# Altium footprint library SMD-SOTxx.PcbLib: 10 footprints
Each footprint in its own frame and in the unit in brackets; x right, y up, seen from the top. Pads: shape width x height; smd on the part's side, far side on the other; paste and mask are expansions set on the pad; w line width, h text height; cw(c..) or ccw(c..) is an arc to the next point about the centre after c.
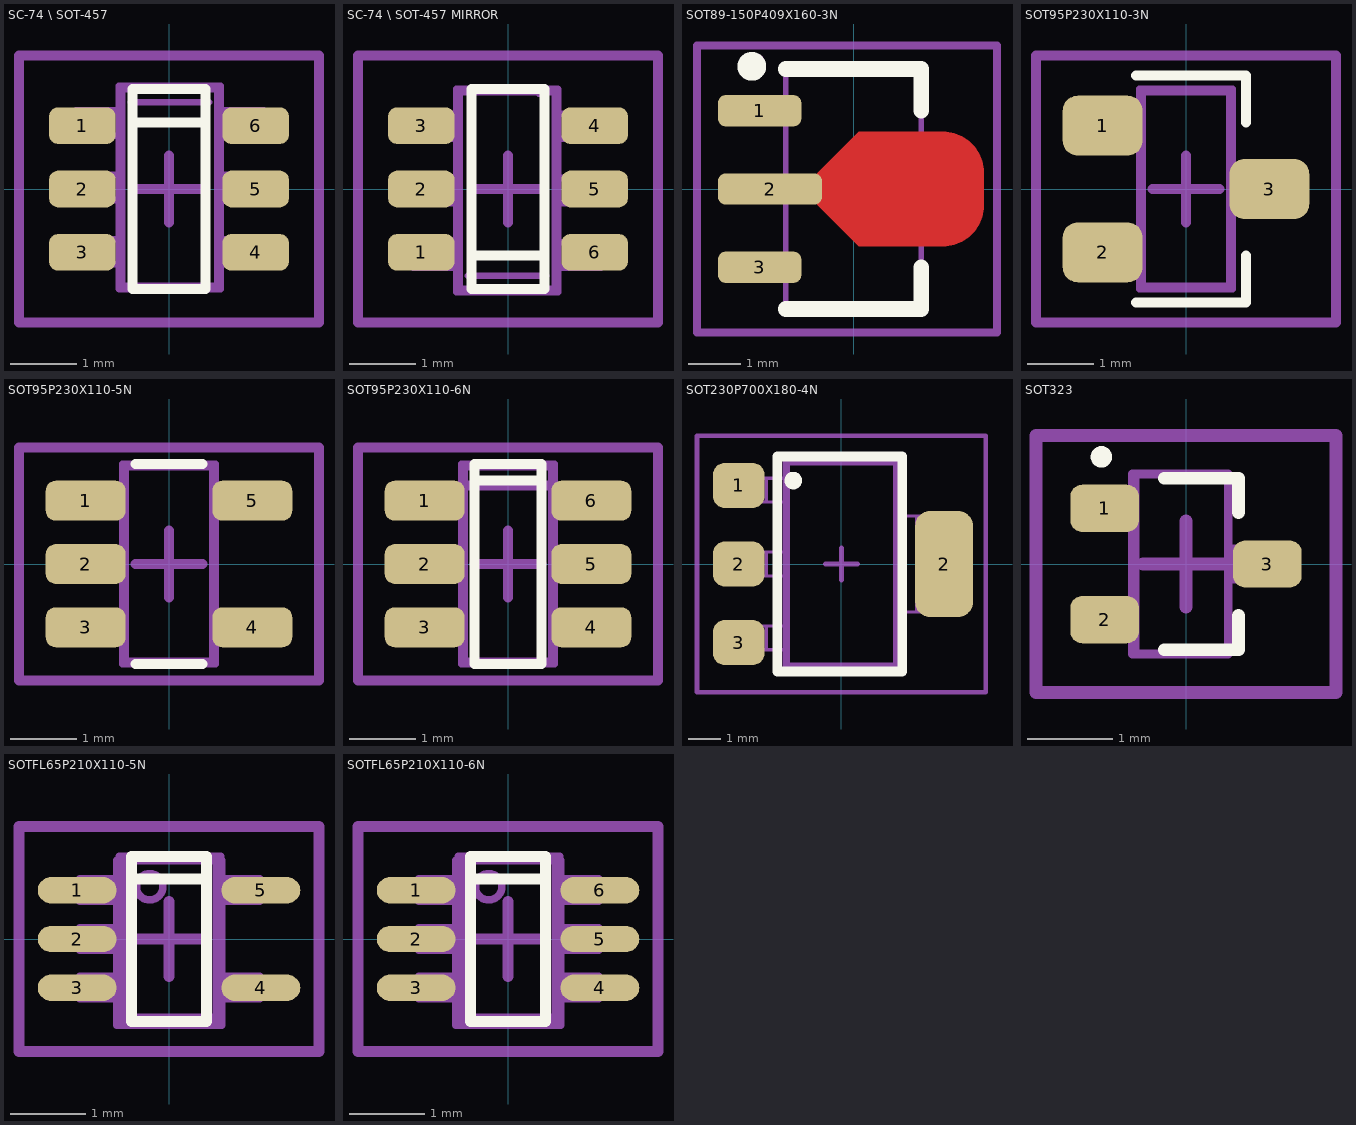
[diagram p0: the footprints below, top view; thin cyan lines are the x and y axes]

## SC-74 \ SOT-457 [mm] "SOP, 6-Leads, Body 3,18x1,80mm, Pitch 0,95mm, IPC Medium Density"
height 2.65
pads (6):
  rrect50% 1x0.55 smd: 1(-1.3,0.95) 2(-1.3,0) 3(-1.3,-0.95) 4(1.3,-0.95) 5(1.3,0) 6(1.3,0.95)
Top Overlay:
  lines w0.15: -0.55,1 0.55,1 ; -0.55,-1.5 -0.55,1.5 0.55,1.5 0.55,-1.5 -0.55,-1.5
Top Assembly (Mech13):
  lines w0.1: -0.75,-1.129 -0.877,-1.129 ; -0.75,-0.753 -0.877,-0.753 ; -0.75,-0.164 -0.877,-0.164 ; -0.75,0.212 -0.877,0.212 ; -0.75,0.801 -0.877,0.801 ; -0.75,1.177 -0.877,1.177 ; -0.572,1.3 0.603,1.3 ; 0.774,-1.129 0.911,-1.129 ; 0.774,-0.753 0.911,-0.753 ; 0.774,-0.164 0.911,-0.164 ; 0.774,0.212 0.911,0.212 ; 0.774,0.801 0.911,0.801 ; 0.774,1.177 0.911,1.177 ; -1.079,-1.129 -1.079,-0.753 ; -1.079,-1.129 -1.395,-1.129 -1.395,-0.753 -1.079,-0.753 ; -1.079,-1.129 -1.07,-1.129 ; -1.079,-0.753 -1.07,-0.753 ; -1.079,-0.164 -1.079,0.212 ; -1.079,-0.164 -1.395,-0.164 -1.395,0.212 -1.079,0.212 ; -1.079,-0.164 -1.07,-0.164 ; -1.079,0.212 -1.07,0.212 ; -1.079,0.801 -1.079,1.177 ; -1.079,0.801 -1.395,0.801 -1.395,1.177 -1.079,1.177 ; -1.079,0.801 -1.07,0.801 ; -1.079,1.177 -1.07,1.177 ; -1.07,-1.129 -0.877,-1.129 ; -1.07,-1.129 -1.07,-0.753 ; -1.07,-0.753 -0.877,-0.753 ; -1.07,-0.164 -0.877,-0.164 ; -1.07,-0.164 -1.07,0.212 ; -1.07,0.212 -0.877,0.212 ; -1.07,0.801 -0.877,0.801 ; -1.07,0.801 -1.07,1.177 ; -1.07,1.177 -0.877,1.177 ; -0.877,-1.129 -0.877,-0.753 ; -0.877,-0.164 -0.877,0.212 ; -0.877,0.801 -0.877,1.177 ; -0.75,-1.5 -0.75,1.548 ; -0.75,-1.5 -0.699,-1.449 ; -0.75,-1.5 0.774,-1.5 ; -0.75,1.548 0.774,1.548 ; -0.75,1.548 -0.699,1.497 ; -0.699,-1.449 -0.699,1.497 ; -0.699,-1.449 0.723,-1.449 ; -0.699,1.497 0.723,1.497 ; 0.723,-1.449 0.774,-1.5 ; 0.723,-1.449 0.723,1.497 ; 0.723,1.497 0.774,1.548 ; 0.774,-1.5 0.774,1.548 ; 0.911,-1.129 0.911,-0.753 ; 0.911,-1.129 1.101,-1.129 ; 0.911,-0.753 1.101,-0.753 ; 0.911,-0.164 0.911,0.212 ; 0.911,-0.164 1.101,-0.164 ; 0.911,0.212 1.101,0.212 ; 0.911,0.801 0.911,1.177 ; 0.911,0.801 1.101,0.801 ; 0.911,1.177 1.101,1.177 ; 1.101,-1.129 1.105,-1.129 ; 1.101,-1.129 1.101,-0.753 ; 1.101,-0.753 1.105,-0.753 ; 1.101,-0.164 1.105,-0.164 ; 1.101,-0.164 1.101,0.212 ; 1.101,0.212 1.105,0.212 ; 1.101,0.801 1.105,0.801 ; 1.101,0.801 1.101,1.177 ; 1.101,1.177 1.105,1.177 ; 1.105,-1.129 1.105,-0.753 ; 1.105,-1.129 1.42,-1.129 1.42,-0.753 1.105,-0.753 ; 1.105,-0.164 1.105,0.212 ; 1.105,-0.164 1.42,-0.164 1.42,0.212 1.105,0.212 ; 1.105,0.801 1.105,1.177 ; 1.105,0.801 1.42,0.801 1.42,1.177 1.105,1.177
Top Component Outline:
  lines w0.15: -0.5,0 0.5,0 ; 0,-0.5 0,0.5 ; -2.25,-2 -2.25,2 2.25,2 2.25,-2 -2.25,-2
3D body "User Library-SOT457.STEP": height 1, standoff 0, extent -1.4,-1.5 1.4,1.5

## SC-74 \ SOT-457 MIRROR [mm] "SOP, 6-Leads, Body 3,18x1,80mm, Pitch 0,95mm, IPC Medium Density"
height 2.65
pads (6):
  rrect50% 1x0.55 smd: 1(-1.3,-0.95) 2(-1.3,0) 3(-1.3,0.95) 4(1.3,0.95) 5(1.3,0) 6(1.3,-0.95)
Top Overlay:
  lines w0.15: -0.55,-1 0.55,-1 ; -0.55,-1.5 -0.55,1.5 0.55,1.5 0.55,-1.5 -0.55,-1.5
Top Assembly (Mech13):
  lines w0.1: -0.774,-1.177 -0.911,-1.177 ; -0.774,-0.801 -0.911,-0.801 ; -0.774,-0.212 -0.911,-0.212 ; -0.774,0.164 -0.911,0.164 ; -0.774,0.753 -0.911,0.753 ; -0.774,1.129 -0.911,1.129 ; -0.603,-1.3 0.572,-1.3 ; 0.46,1.429 0.46,1.497 ; 0.75,-1.177 0.877,-1.177 ; 0.75,-0.801 0.877,-0.801 ; 0.75,-0.212 0.877,-0.212 ; 0.75,0.164 0.877,0.164 ; 0.75,0.753 0.877,0.753 ; 0.75,1.129 0.877,1.129 ; -1.105,-1.177 -1.101,-1.177 ; -1.105,-1.177 -1.42,-1.177 -1.42,-0.801 -1.105,-0.801 ; -1.105,-1.177 -1.105,-0.801 ; -1.105,-0.801 -1.101,-0.801 ; -1.105,-0.212 -1.101,-0.212 ; -1.105,-0.212 -1.42,-0.212 -1.42,0.164 -1.105,0.164 ; -1.105,-0.212 -1.105,0.164 ; -1.105,0.164 -1.101,0.164 ; -1.105,0.753 -1.101,0.753 ; -1.105,0.753 -1.42,0.753 -1.42,1.129 -1.105,1.129 ; -1.105,0.753 -1.105,1.129 ; -1.105,1.129 -1.101,1.129 ; -1.101,-1.177 -1.101,-0.801 ; -1.101,-1.177 -0.911,-1.177 ; -1.101,-0.801 -0.911,-0.801 ; -1.101,-0.212 -1.101,0.164 ; -1.101,-0.212 -0.911,-0.212 ; -1.101,0.164 -0.911,0.164 ; -1.101,0.753 -1.101,1.129 ; -1.101,0.753 -0.911,0.753 ; -1.101,1.129 -0.911,1.129 ; -0.911,-1.177 -0.911,-0.801 ; -0.911,-0.212 -0.911,0.164 ; -0.911,0.753 -0.911,1.129 ; -0.774,-1.548 -0.723,-1.497 ; -0.774,-1.548 -0.774,1.5 ; -0.774,-1.548 0.75,-1.548 ; -0.774,1.5 -0.723,1.449 ; -0.774,1.5 0.75,1.5 ; -0.723,-1.497 0.699,-1.497 ; -0.723,-1.497 -0.723,1.449 ; -0.723,1.449 0.699,1.449 ; 0.699,-1.497 0.699,1.449 ; 0.699,-1.497 0.75,-1.548 ; 0.699,1.449 0.75,1.5 ; 0.75,-1.548 0.75,1.5 ; 0.877,-1.177 1.07,-1.177 ; 0.877,-1.177 0.877,-0.801 ; 0.877,-0.801 1.07,-0.801 ; 0.877,-0.212 1.07,-0.212 ; 0.877,-0.212 0.877,0.164 ; 0.877,0.164 1.07,0.164 ; 0.877,0.753 1.07,0.753 ; 0.877,0.753 0.877,1.129 ; 0.877,1.129 1.07,1.129 ; 1.07,-1.177 1.07,-0.801 ; 1.07,-1.177 1.079,-1.177 ; 1.07,-0.801 1.079,-0.801 ; 1.07,-0.212 1.07,0.164 ; 1.07,-0.212 1.079,-0.212 ; 1.07,0.164 1.079,0.164 ; 1.07,0.753 1.07,1.129 ; 1.07,0.753 1.079,0.753 ; 1.07,1.129 1.079,1.129 ; 1.079,-1.177 1.395,-1.177 1.395,-0.801 1.079,-0.801 ; 1.079,-1.177 1.079,-0.801 ; 1.079,-0.212 1.395,-0.212 1.395,0.164 1.079,0.164 ; 1.079,-0.212 1.079,0.164 ; 1.079,0.753 1.395,0.753 1.395,1.129 1.079,1.129 ; 1.079,0.753 1.079,1.129
Top Component Outline:
  lines w0.15: -0.5,0 0.5,0 ; 0,-0.5 0,0.5 ; -2.25,-2 -2.25,2 2.25,2 2.25,-2 -2.25,-2
3D body "User Library-SOT457.STEP": height 1, standoff 0, extent -1.4,-1.5 1.4,1.5

## SOT89-150P409X160-3N [mm] "SOT89, 3-Leads, Body 4,50x2,50mm, Pitch 1,50mm, Lead Span 4,1mm, IPC Medium Density"
height 1.6
pads (3):
  rrect50% 1.6x0.6 smd: 1(-1.8,1.5) 3(-1.8,-1.5)
  rrect50% 2x0.6 smd: 2(-1.6,0)
Top Layer:
  region: -0.7,0.3 0.1,1.1 1.7,1.1 1.779,1.1 1.933,1.069 2.079,1.009 2.21,0.921 2.321,0.81 2.409,0.679 2.469,0.533 2.5,0.379 2.5,0.3 2.5,-0.3 2.5,-0.379 2.469,-0.533 2.409,-0.679 2.321,-0.81 2.21,-0.921 2.079,-1.009 1.933,-1.069 1.779,-1.1 1.7,-1.1 0.1,-1.1 -0.7,-0.3
Top Overlay:
  circle w0.3: c-1.95,2.35 r0.125
  lines w0.3: -1.3,-2.3 1.3,-2.3 1.3,-1.5 ; -1.3,2.3 1.3,2.3 1.3,1.5
Top Assembly (Mech13):
  circle w0.1: c-1.9,2.4 r0.158
  region: 1.3,0.6 1.6,0.6 2,0.2 2,-0.2 1.6,-0.6 1.3,-0.6
  region: -1.328,1.397 -1.328,1.722 -2.228,1.722 -2.228,1.397
  region: -1.328,-0.127 -1.328,0.198 -2.228,0.198 -2.228,-0.127
  region: -1.328,-1.651 -1.328,-1.326 -2.228,-1.326 -2.228,-1.651
  lines w0.1: -1.3,-2.3 1.3,-2.3 1.3,2.3 -1.3,2.3 -1.3,-2.3
  lines w0.254: 1.4,-0.6 1.6,-0.6 2,-0.2 2,0.2 1.6,0.6 1.4,0.6
Top Component Outline:
  lines w0.15: -0.5,0 0.5,0 ; 0,-0.5 0,0.5 ; -3,-2.75 2.75,-2.75 2.75,2.75 -3,2.75 -3,-2.75
3D body "SOT89.STEP": height 1.5, standoff 0, extent -2.149,-2.239 1.946,2.261

## SOT95P230X110-3N [mm] "SOT23, 3-Leads, Body 2,90x2,30mm, Pitch 0,95mm, IPC Medium Density"
height 1.1
pads (3):
  rrect50% 1.2x0.9 smd: 1(-1.25,0.95) 2(-1.25,-0.95) 3(1.25,0)
Top Overlay:
  lines w0.15: -0.75,-1.7 0.9,-1.7 0.9,-1 ; -0.75,1.7 0.9,1.7 0.9,1
Top Assembly (Mech13):
  lines w0.1: -1.25,-1.175 -1.027,-1.175 ; -1.25,-1.175 -1.25,-0.725 ; -1.25,-1.175 -1.25,-0.725 ; -1.25,-1.175 -0.7,-1.175 ; -1.25,-0.725 -1.027,-0.725 ; -1.25,-0.725 -0.7,-0.725 ; -1.25,0.725 -1.027,0.725 ; -1.25,0.725 -1.25,1.175 ; -1.25,0.725 -0.7,0.725 ; -1.25,0.725 -1.25,1.175 ; -1.25,1.175 -1.027,1.175 ; -1.25,1.175 -0.7,1.175 ; -1.027,-1.175 -1.027,-0.725 ; -1.027,-1.175 -0.977,-1.175 ; -1.027,-0.725 -0.977,-0.725 ; -1.027,0.725 -1.027,1.175 ; -1.027,0.725 -0.977,0.725 ; -1.027,1.175 -0.977,1.175 ; -0.977,-1.175 -0.977,-0.725 ; -0.977,-1.175 -0.955,-1.175 ; -0.977,-0.725 -0.955,-0.725 ; -0.977,0.725 -0.977,1.175 ; -0.977,0.725 -0.955,0.725 ; -0.977,1.175 -0.955,1.175 ; -0.955,-1.175 -0.955,-0.725 ; -0.955,-1.175 -0.757,-1.175 ; -0.955,-0.725 -0.757,-0.725 ; -0.955,0.725 -0.955,1.175 ; -0.955,0.725 -0.757,0.725 ; -0.955,1.175 -0.757,1.175 ; -0.757,-1.175 -0.757,-0.725 ; -0.757,-1.175 -0.7,-1.175 ; -0.757,-0.725 -0.7,-0.725 ; -0.757,0.725 -0.757,1.175 ; -0.757,0.725 -0.7,0.725 ; -0.757,1.175 -0.7,1.175 ; -0.7,-1.5 -0.7,-1.175 ; -0.7,-1.5 0.7,-1.5 ; -0.7,-1.5 -0.652,-1.452 ; -0.7,-1.5 0.7,-1.5 ; -0.7,-1.5 -0.7,-1.175 ; -0.7,-1.175 -0.7,-0.725 ; -0.7,-0.725 -0.7,0.725 ; -0.7,-0.725 -0.7,0.725 ; -0.7,0.725 -0.7,1.175 ; -0.7,1.175 -0.7,1.5 ; -0.7,1.175 -0.7,1.5 ; -0.7,1.5 0.7,1.5 ; -0.7,1.5 -0.652,1.452 ; -0.7,1.5 0.7,1.5 ; -0.652,-1.452 -0.652,1.452 ; -0.652,-1.452 0.652,-1.452 ; -0.652,1.452 0.652,1.452 ; 0.652,-1.452 0.652,1.452 ; 0.652,-1.452 0.7,-1.5 ; 0.652,1.452 0.7,1.5 ; 0.7,-1.5 0.7,-0.225 ; 0.7,-1.5 0.7,-0.225 ; 0.7,-0.225 0.757,-0.225 ; 0.7,-0.225 0.7,0.225 ; 0.7,-0.225 1.25,-0.225 ; 0.7,0.225 0.757,0.225 ; 0.7,0.225 0.7,1.5 ; 0.7,0.225 0.7,1.5 ; 0.7,0.225 1.25,0.225 ; 0.757,-0.225 0.757,0.225 ; 0.757,-0.225 0.955,-0.225 ; 0.757,0.225 0.955,0.225 ; 0.955,-0.225 0.955,0.225 ; 0.955,-0.225 0.977,-0.225 ; 0.955,0.225 0.977,0.225 ; 0.977,-0.225 0.977,0.225 ; 0.977,-0.225 1.027,-0.225 ; 0.977,0.225 1.027,0.225 ; 1.027,-0.225 1.027,0.225 ; 1.027,-0.225 1.25,-0.225 ; 1.027,0.225 1.25,0.225 ; 1.25,-0.225 1.25,0.225 ; 1.25,-0.225 1.25,0.225
Top Component Outline:
  lines w0.15: -0.5,0 0.5,0 ; 0,-0.5 0,0.5 ; -2.25,-2 -2.25,2 2.25,2 2.25,-2 -2.25,-2
3D body "SOT-23 3.STEP": height 1, standoff -0.02, extent -1.269,-1.46 1.207,1.46

## SOT95P230X110-5N [mm] "SOT23, 5-Leads, Body 2,90x2,30mm, Pitch 0,95mm, IPC Medium Density"
height 1.1
pads (5):
  rrect50% 1.2x0.6 smd: 1(-1.25,0.95) 2(-1.25,0) 3(-1.25,-0.95) 4(1.25,-0.95) 5(1.25,0.95)
Top Overlay:
  lines w0.15: -0.5,-1.5 0.5,-1.5 ; -0.5,1.5 0.5,1.5
Top Assembly (Mech13):
  lines w0.1: -1.25,-1.175 -0.7,-1.175 ; -1.25,-1.175 -1.25,-0.725 ; -1.25,-1.175 -1.25,-0.725 ; -1.25,-1.175 -1.027,-1.175 ; -1.25,-0.725 -0.7,-0.725 ; -1.25,-0.725 -1.027,-0.725 ; -1.25,-0.225 -1.25,0.225 ; -1.25,-0.225 -1.25,0.225 ; -1.25,-0.225 -0.7,-0.225 ; -1.25,-0.225 -1.027,-0.225 ; -1.25,0.225 -0.7,0.225 ; -1.25,0.225 -1.027,0.225 ; -1.25,0.725 -1.25,1.175 ; -1.25,0.725 -0.7,0.725 ; -1.25,0.725 -1.25,1.175 ; -1.25,0.725 -1.027,0.725 ; -1.25,1.175 -0.7,1.175 ; -1.25,1.175 -1.027,1.175 ; -1.027,-1.175 -0.977,-1.175 ; -1.027,-1.175 -1.027,-0.725 ; -1.027,-0.725 -0.977,-0.725 ; -1.027,-0.225 -1.027,0.225 ; -1.027,-0.225 -0.977,-0.225 ; -1.027,0.225 -0.977,0.225 ; -1.027,0.725 -0.977,0.725 ; -1.027,0.725 -1.027,1.175 ; -1.027,1.175 -0.977,1.175 ; -0.977,-1.175 -0.955,-1.175 ; -0.977,-1.175 -0.977,-0.725 ; -0.977,-0.725 -0.955,-0.725 ; -0.977,-0.225 -0.977,0.225 ; -0.977,-0.225 -0.955,-0.225 ; -0.977,0.225 -0.955,0.225 ; -0.977,0.725 -0.955,0.725 ; -0.977,0.725 -0.977,1.175 ; -0.977,1.175 -0.955,1.175 ; -0.955,-1.175 -0.757,-1.175 ; -0.955,-1.175 -0.955,-0.725 ; -0.955,-0.725 -0.757,-0.725 ; -0.955,-0.225 -0.955,0.225 ; -0.955,-0.225 -0.757,-0.225 ; -0.955,0.225 -0.757,0.225 ; -0.955,0.725 -0.757,0.725 ; -0.955,0.725 -0.955,1.175 ; -0.955,1.175 -0.757,1.175 ; -0.757,-1.175 -0.7,-1.175 ; -0.757,-1.175 -0.757,-0.725 ; -0.757,-0.725 -0.7,-0.725 ; -0.757,-0.225 -0.757,0.225 ; -0.757,-0.225 -0.7,-0.225 ; -0.757,0.225 -0.7,0.225 ; -0.757,0.725 -0.7,0.725 ; -0.757,0.725 -0.757,1.175 ; -0.757,1.175 -0.7,1.175 ; -0.7,-1.5 0.7,-1.5 ; -0.7,-1.5 0.7,-1.5 ; -0.7,-1.5 -0.7,-1.175 ; -0.7,-1.5 -0.652,-1.452 ; -0.7,-1.5 -0.7,-1.175 ; -0.7,-1.175 -0.7,-0.725 ; -0.7,-0.725 -0.7,-0.225 ; -0.7,-0.725 -0.7,-0.225 ; -0.7,-0.225 -0.7,0.225 ; -0.7,0.225 -0.7,0.725 ; -0.7,0.225 -0.7,0.725 ; -0.7,0.725 -0.7,1.175 ; -0.7,1.175 -0.7,1.5 ; -0.7,1.175 -0.7,1.5 ; -0.7,1.5 0.7,1.5 ; -0.7,1.5 0.7,1.5 ; -0.7,1.5 -0.652,1.452 ; -0.652,-1.452 0.652,-1.452 ; -0.652,-1.452 -0.652,1.452 ; -0.652,1.452 0.652,1.452 ; 0.652,-1.452 0.652,1.452 ; 0.652,-1.452 0.7,-1.5 ; 0.652,1.452 0.7,1.5 ; 0.7,-1.5 0.7,-1.175 ; 0.7,-1.5 0.7,-1.175 ; 0.7,-1.175 1.25,-1.175 ; 0.7,-1.175 0.7,-0.725 ; 0.7,-1.175 0.757,-1.175 ; 0.7,-0.725 0.7,0.725 ; 0.7,-0.725 0.7,0.725 ; 0.7,-0.725 1.25,-0.725 ; 0.7,-0.725 0.757,-0.725 ; 0.7,0.725 1.25,0.725 ; 0.7,0.725 0.7,1.175 ; 0.7,0.725 0.757,0.725 ; 0.7,1.175 0.7,1.5 ; 0.7,1.175 1.25,1.175 ; 0.7,1.175 0.7,1.5 ; 0.7,1.175 0.757,1.175 ; 0.757,-1.175 0.955,-1.175 ; 0.757,-1.175 0.757,-0.725 ; 0.757,-0.725 0.955,-0.725 ; 0.757,0.725 0.955,0.725 ; 0.757,0.725 0.757,1.175 ; 0.757,1.175 0.955,1.175 ; 0.955,-1.175 0.977,-1.175 ; 0.955,-1.175 0.955,-0.725 ; 0.955,-0.725 0.977,-0.725 ; 0.955,0.725 0.977,0.725 ; 0.955,0.725 0.955,1.175 ; 0.955,1.175 0.977,1.175 ; 0.977,-1.175 1.027,-1.175 ; 0.977,-1.175 0.977,-0.725 ; 0.977,-0.725 1.027,-0.725 ; 0.977,0.725 1.027,0.725 ; 0.977,0.725 0.977,1.175 ; 0.977,1.175 1.027,1.175 ; 1.027,-1.175 1.25,-1.175 ; 1.027,-1.175 1.027,-0.725 ; 1.027,-0.725 1.25,-0.725 ; 1.027,0.725 1.25,0.725 ; 1.027,0.725 1.027,1.175 ; 1.027,1.175 1.25,1.175 ; 1.25,-1.175 1.25,-0.725 ; 1.25,-1.175 1.25,-0.725 ; 1.25,0.725 1.25,1.175 ; 1.25,0.725 1.25,1.175
Top Component Outline:
  lines w0.15: -0.5,0 0.5,0 ; 0,-0.5 0,0.5 ; -2.25,-1.75 2.25,-1.75 2.25,1.75 -2.25,1.75 -2.25,-1.75
3D body "SOT95P245X110-5N.step": height 1.1, standoff 0, extent -1.3,-1.5 1.3,1.5

## SOT95P230X110-6N [mm] "SOT23, 6-Leads, Body 2,90x2,30mm, Pitch 0,95mm, IPC Medium Density"
height 1.1
pads (6):
  rrect50% 1.2x0.6 smd: 1(-1.25,0.95) 2(-1.25,0) 3(-1.25,-0.95) 4(1.25,-0.95) 5(1.25,0) 6(1.25,0.95)
Top Overlay:
  lines w0.15: -0.5,1.25 -0.5,1.5 0.5,1.5 0.5,1.25 ; -0.5,1.25 0.5,1.25 ; -0.5,1.25 -0.5,-1.5 0.5,-1.5 0.5,1.25
Top Assembly (Mech13):
  lines w0.1: -1.25,-1.175 -0.7,-1.175 ; -1.25,-1.175 -1.25,-0.725 ; -1.25,-1.175 -1.25,-0.725 ; -1.25,-1.175 -1.027,-1.175 ; -1.25,-0.725 -0.7,-0.725 ; -1.25,-0.725 -1.027,-0.725 ; -1.25,-0.225 -1.25,0.225 ; -1.25,-0.225 -0.7,-0.225 ; -1.25,-0.225 -1.25,0.225 ; -1.25,-0.225 -1.027,-0.225 ; -1.25,0.225 -0.7,0.225 ; -1.25,0.225 -1.027,0.225 ; -1.25,0.725 -1.25,1.175 ; -1.25,0.725 -0.7,0.725 ; -1.25,0.725 -1.25,1.175 ; -1.25,0.725 -1.027,0.725 ; -1.25,1.175 -0.7,1.175 ; -1.25,1.175 -1.027,1.175 ; -1.027,-1.175 -0.977,-1.175 ; -1.027,-1.175 -1.027,-0.725 ; -1.027,-0.725 -0.977,-0.725 ; -1.027,-0.225 -0.977,-0.225 ; -1.027,-0.225 -1.027,0.225 ; -1.027,0.225 -0.977,0.225 ; -1.027,0.725 -0.977,0.725 ; -1.027,0.725 -1.027,1.175 ; -1.027,1.175 -0.977,1.175 ; -0.977,-1.175 -0.955,-1.175 ; -0.977,-1.175 -0.977,-0.725 ; -0.977,-0.725 -0.955,-0.725 ; -0.977,-0.225 -0.955,-0.225 ; -0.977,-0.225 -0.977,0.225 ; -0.977,0.225 -0.955,0.225 ; -0.977,0.725 -0.955,0.725 ; -0.977,0.725 -0.977,1.175 ; -0.977,1.175 -0.955,1.175 ; -0.955,-1.175 -0.757,-1.175 ; -0.955,-1.175 -0.955,-0.725 ; -0.955,-0.725 -0.757,-0.725 ; -0.955,-0.225 -0.757,-0.225 ; -0.955,-0.225 -0.955,0.225 ; -0.955,0.225 -0.757,0.225 ; -0.955,0.725 -0.757,0.725 ; -0.955,0.725 -0.955,1.175 ; -0.955,1.175 -0.757,1.175 ; -0.757,-1.175 -0.7,-1.175 ; -0.757,-1.175 -0.757,-0.725 ; -0.757,-0.725 -0.7,-0.725 ; -0.757,-0.225 -0.7,-0.225 ; -0.757,-0.225 -0.757,0.225 ; -0.757,0.225 -0.7,0.225 ; -0.757,0.725 -0.7,0.725 ; -0.757,0.725 -0.757,1.175 ; -0.757,1.175 -0.7,1.175 ; -0.7,-1.5 0.7,-1.5 ; -0.7,-1.5 -0.7,-1.175 ; -0.7,-1.5 -0.652,-1.452 ; -0.7,-1.5 -0.7,-1.175 ; -0.7,-1.5 0.7,-1.5 ; -0.7,-1.175 -0.7,-0.725 ; -0.7,-0.725 -0.7,-0.225 ; -0.7,-0.725 -0.7,-0.225 ; -0.7,-0.225 -0.7,0.225 ; -0.7,0.225 -0.7,0.725 ; -0.7,0.225 -0.7,0.725 ; -0.7,0.725 -0.7,1.175 ; -0.7,1.175 -0.7,1.5 ; -0.7,1.175 -0.7,1.5 ; -0.7,1.5 0.7,1.5 ; -0.7,1.5 -0.652,1.452 ; -0.7,1.5 0.7,1.5 ; -0.652,-1.452 -0.652,1.452 ; -0.652,-1.452 0.652,-1.452 ; -0.652,1.452 0.652,1.452 ; 0.652,-1.452 0.7,-1.5 ; 0.652,-1.452 0.652,1.452 ; 0.652,1.452 0.7,1.5 ; 0.7,-1.5 0.7,-1.175 ; 0.7,-1.5 0.7,-1.175 ; 0.7,-1.175 1.25,-1.175 ; 0.7,-1.175 0.7,-0.725 ; 0.7,-1.175 0.757,-1.175 ; 0.7,-0.725 0.7,0.725 ; 0.7,-0.725 1.25,-0.725 ; 0.7,-0.725 0.7,0.725 ; 0.7,-0.725 0.757,-0.725 ; 0.7,-0.225 0.757,-0.225 ; 0.7,-0.225 0.7,0.225 ; 0.7,-0.225 1.25,-0.225 ; 0.7,0.225 0.757,0.225 ; 0.7,0.225 1.25,0.225 ; 0.7,0.725 1.25,0.725 ; 0.7,0.725 0.7,1.175 ; 0.7,0.725 0.757,0.725 ; 0.7,1.175 0.7,1.5 ; 0.7,1.175 1.25,1.175 ; 0.7,1.175 0.7,1.5 ; 0.7,1.175 0.757,1.175 ; 0.757,-1.175 0.955,-1.175 ; 0.757,-1.175 0.757,-0.725 ; 0.757,-0.725 0.955,-0.725 ; 0.757,-0.225 0.757,0.225 ; 0.757,-0.225 0.955,-0.225 ; 0.757,0.225 0.955,0.225 ; 0.757,0.725 0.955,0.725 ; 0.757,0.725 0.757,1.175 ; 0.757,1.175 0.955,1.175 ; 0.955,-1.175 0.977,-1.175 ; 0.955,-1.175 0.955,-0.725 ; 0.955,-0.725 0.977,-0.725 ; 0.955,-0.225 0.955,0.225 ; 0.955,-0.225 0.977,-0.225 ; 0.955,0.225 0.977,0.225 ; 0.955,0.725 0.977,0.725 ; 0.955,0.725 0.955,1.175 ; 0.955,1.175 0.977,1.175 ; 0.977,-1.175 1.027,-1.175 ; 0.977,-1.175 0.977,-0.725 ; 0.977,-0.725 1.027,-0.725 ; 0.977,-0.225 0.977,0.225 ; 0.977,-0.225 1.027,-0.225 ; 0.977,0.225 1.027,0.225 ; 0.977,0.725 1.027,0.725 ; 0.977,0.725 0.977,1.175 ; 0.977,1.175 1.027,1.175 ; 1.027,-1.175 1.25,-1.175 ; 1.027,-1.175 1.027,-0.725 ; 1.027,-0.725 1.25,-0.725 ; 1.027,-0.225 1.027,0.225 ; 1.027,-0.225 1.25,-0.225 ; 1.027,0.225 1.25,0.225 ; 1.027,0.725 1.25,0.725 ; 1.027,0.725 1.027,1.175 ; 1.027,1.175 1.25,1.175 ; 1.25,-1.175 1.25,-0.725 ; 1.25,-1.175 1.25,-0.725 ; 1.25,-0.225 1.25,0.225 ; 1.25,-0.225 1.25,0.225 ; 1.25,0.725 1.25,1.175 ; 1.25,0.725 1.25,1.175
  lines w0.15: -0.7,1.175 0.7,1.175
Top Component Outline:
  lines w0.15: -0.5,0 0.5,0 ; 0,-0.5 0,0.5 ; -2.25,-1.75 2.25,-1.75 2.25,1.75 -2.25,1.75 -2.25,-1.75
3D body "User Library-SOT23-6.step": height 1.3, standoff 0, extent -1.5,-1.5 1.5,1.5

## SOT230P700X180-4N [mm] "SOT223, 4-Leads, Body 6,50x7,00mm (avg), Pitch 2,30mm, IPC Medium Density"
height 1.8
pads (4):
  rrect50% 1.6x1.4 smd: 1(-3.2,2.45) 2(-3.2,0) 3(-3.2,-2.45)
  rrect50% 1.8x3.3 smd: 2(3.2,0)
Top Overlay:
  circle w0.3: c-1.5,2.6 r0.125
  lines w0.3: -2,-3.35 -2,3.35 1.9,3.35 1.9,-3.35 -2,-3.35
Top Assembly (Mech13):
  drawing of 520 lines, arcs and shapes, not listed
Top Component Outline:
  lines w0.15: -0.5,0 0.5,0 ; 0,-0.5 0,0.5 ; -4.5,-4 -4.5,4 4.5,4 4.5,-4 -4.5,-4
3D body "SOT223.STEP": height 1.64, standoff -0.01, extent -3.5,-3.25 3.5,3.25

## SOT323 [mm] "SOT-323/SC-70; 3 Leads; Body 2.2 x 2.2 mm, inc. leads (LxW max)"
height 1
pads (3):
  rrect50% 0.8x0.55 smd: 1(-0.95,0.65) 2(-0.95,-0.65) 3(0.95,0)
Top Overlay:
  circle w0.15: c-0.987,1.25 r0.05
  lines w0.15: -0.25,-1 0.613,-1 0.613,-0.6 ; -0.25,1 0.613,1 0.613,0.6
Top Assembly (Mech13):
  lines w0.1: -0.625,-0.825 -0.625,-1.05 -0.592,-1.05 ; -0.625,-0.475 -0.625,0.475 ; -0.625,0.825 -0.625,1.05 -0.592,1.05 ; -0.771,-0.825 -0.771,-0.475 ; -0.771,-0.825 -1.101,-0.825 -1.101,-0.475 -0.771,-0.475 ; -0.771,-0.825 -0.756,-0.825 ; -0.771,-0.475 -0.756,-0.475 ; -0.771,0.475 -0.771,0.825 ; -0.771,0.475 -1.101,0.475 -1.101,0.825 -0.771,0.825 ; -0.771,0.475 -0.756,0.475 ; -0.771,0.825 -0.756,0.825 ; -0.756,-0.825 -0.724,-0.825 ; -0.756,-0.825 -0.756,-0.475 ; -0.756,-0.475 -0.724,-0.475 ; -0.756,0.475 -0.724,0.475 ; -0.756,0.475 -0.756,0.825 ; -0.756,0.825 -0.724,0.825 ; -0.724,-0.825 -0.724,-0.475 ; -0.724,-0.825 -0.623,-0.825 -0.623,-0.475 -0.724,-0.475 ; -0.724,0.475 -0.724,0.825 ; -0.724,0.475 -0.623,0.475 -0.623,0.825 -0.724,0.825 ; -0.592,-1.05 0.492,-1.05 0.492,1.05 -0.592,1.05 ; -0.592,-1.05 -0.592,1.05 ; 0.592,-0.175 0.492,-0.175 0.492,0.175 0.592,0.175 ; 0.592,-0.175 0.624,-0.175 ; 0.592,-0.175 0.592,0.175 ; 0.592,0.175 0.624,0.175 ; 0.624,-0.175 0.624,0.175 ; 0.624,-0.175 0.639,-0.175 ; 0.624,0.175 0.639,0.175 ; 0.639,-0.175 0.97,-0.175 0.97,0.175 0.639,0.175 ; 0.639,-0.175 0.639,0.175
Top Component Outline:
  lines w0.15: -0.5,0 0.5,0 ; 0,-0.5 0,0.5 ; -1.75,-1.5 1.75,-1.5 1.75,1.5 -1.75,1.5 -1.75,-1.5
3D body "SOT323.STEP": height 0.9, standoff 0, extent -1.037,-1.05 1.063,1.05

## SOTFL65P210X110-5N [mm] "SOTFL, 6-Leads, Body 2,00x2,10mm, Pitch 0,65mm, IPC Medium Density"
height 1.1
pads (5):
  oval 1.05x0.35 smd: 1(-1.225,0.65) 2(-1.225,0) 3(-1.225,-0.65) 4(1.225,-0.65) 5(1.225,0.65)
Top Overlay:
  lines w0.15: -0.5,0.8 0.5,0.8 ; -0.5,-1.1 0.5,-1.1 0.5,1.1 -0.5,1.1 -0.5,-1.1
Top Assembly (Mech13):
  circle w0.1: c-0.258,0.696 r0.175
  lines w0.1: 0.687,-0.149 0.687,-0.499 ; 0.687,0.151 0.687,0.501 ; -1.016,-0.799 -0.925,-0.799 ; -1.016,-0.799 -1.188,-0.799 -1.188,-0.499 -1.016,-0.499 ; -1.016,-0.799 -1.016,-0.499 ; -1.016,-0.499 -0.925,-0.499 ; -1.016,-0.149 -0.925,-0.149 ; -1.016,-0.149 -1.188,-0.149 -1.188,0.151 -1.016,0.151 ; -1.016,-0.149 -1.016,0.151 ; -1.016,0.151 -0.925,0.151 ; -1.016,0.501 -0.925,0.501 ; -1.016,0.501 -1.188,0.501 -1.188,0.801 -1.016,0.801 ; -1.016,0.501 -1.016,0.801 ; -1.016,0.801 -0.925,0.801 ; -0.925,-0.799 -0.913,-0.799 ; -0.925,-0.799 -0.925,-0.499 ; -0.925,-0.499 -0.913,-0.499 ; -0.925,-0.149 -0.913,-0.149 ; -0.925,-0.149 -0.925,0.151 ; -0.925,0.151 -0.913,0.151 ; -0.925,0.501 -0.913,0.501 ; -0.925,0.501 -0.925,0.801 ; -0.925,0.801 -0.913,0.801 ; -0.913,-0.799 -0.663,-0.799 ; -0.913,-0.799 -0.913,-0.499 ; -0.913,-0.499 -0.663,-0.499 ; -0.913,-0.149 -0.663,-0.149 ; -0.913,-0.149 -0.913,0.151 ; -0.913,0.151 -0.663,0.151 ; -0.913,0.501 -0.663,0.501 ; -0.913,0.501 -0.913,0.801 ; -0.913,0.801 -0.663,0.801 ; -0.663,-1.099 -0.607,-1.042 ; -0.663,-1.099 -0.663,-0.799 ; -0.663,-1.099 0.687,-1.099 ; -0.663,-0.799 -0.642,-0.799 -0.642,-0.499 -0.663,-0.499 ; -0.663,-0.799 -0.663,-0.499 ; -0.663,-0.499 -0.663,-0.149 ; -0.663,-0.149 -0.642,-0.149 -0.642,0.151 -0.663,0.151 ; -0.663,-0.149 -0.663,0.151 ; -0.663,0.151 -0.663,0.501 ; -0.663,0.501 -0.642,0.501 -0.642,0.801 -0.663,0.801 ; -0.663,0.501 -0.663,0.801 ; -0.663,0.801 -0.663,1.101 ; -0.663,1.101 -0.607,1.045 ; -0.663,1.101 0.687,1.101 ; -0.607,-1.042 -0.607,1.045 ; -0.607,-1.042 0.631,-1.042 ; -0.607,1.045 0.631,1.045 ; 0.631,-1.042 0.631,1.045 ; 0.631,-1.042 0.687,-1.099 ; 0.631,1.045 0.687,1.101 ; 0.687,-1.099 0.687,-0.799 ; 0.687,-0.799 0.937,-0.799 ; 0.687,-0.799 0.666,-0.799 0.666,-0.499 0.687,-0.499 ; 0.687,-0.799 0.687,-0.499 ; 0.687,-0.499 0.937,-0.499 ; 0.687,0.501 0.937,0.501 ; 0.687,0.501 0.666,0.501 0.666,0.801 0.687,0.801 ; 0.687,0.501 0.687,0.801 ; 0.687,0.801 0.687,1.101 ; 0.687,0.801 0.937,0.801 ; 0.937,-0.799 0.949,-0.799 ; 0.937,-0.799 0.937,-0.499 ; 0.937,-0.499 0.949,-0.499 ; 0.937,0.501 0.949,0.501 ; 0.937,0.501 0.937,0.801 ; 0.937,0.801 0.949,0.801 ; 0.949,-0.799 1.04,-0.799 ; 0.949,-0.799 0.949,-0.499 ; 0.949,-0.499 1.04,-0.499 ; 0.949,0.501 1.04,0.501 ; 0.949,0.501 0.949,0.801 ; 0.949,0.801 1.04,0.801 ; 1.04,-0.799 1.212,-0.799 1.212,-0.499 1.04,-0.499 ; 1.04,-0.799 1.04,-0.499 ; 1.04,0.501 1.212,0.501 1.212,0.801 1.04,0.801 ; 1.04,0.501 1.04,0.801 ; -0.7,-1.15 0.7,-1.15 0.7,1.05 -0.7,1.05 -0.7,-1.15
Top Component Outline:
  lines w0.15: -0.5,0 0.5,0 ; 0,-0.5 0,0.5 ; -2,-1.5 2,-1.5 2,1.5 -2,1.5 -2,-1.5
3D body "User Library-SOT353-1.step": height 1.1, standoff 0, extent -1.2,-1.1 1.2,1.1

## SOTFL65P210X110-6N [mm] "SOTFL, 6-Leads, Body 2,00x2,10mm, Pitch 0,65mm, IPC Medium Density"
height 1.1
pads (6):
  oval 1.05x0.35 smd: 1(-1.225,0.65) 2(-1.225,0) 3(-1.225,-0.65) 4(1.225,-0.65) 5(1.225,0) 6(1.225,0.65)
Top Overlay:
  lines w0.15: -0.5,0.8 0.5,0.8 ; -0.5,-1.1 -0.5,1.1 0.5,1.1 0.5,-1.1 -0.5,-1.1
Top Assembly (Mech13):
  circle w0.1: c-0.258,0.696 r0.175
  lines w0.1: -1.016,-0.799 -1.016,-0.499 ; -1.016,-0.799 -1.188,-0.799 -1.188,-0.499 -1.016,-0.499 ; -1.016,-0.799 -0.925,-0.799 ; -1.016,-0.499 -0.925,-0.499 ; -1.016,-0.149 -1.016,0.151 ; -1.016,-0.149 -1.188,-0.149 -1.188,0.151 -1.016,0.151 ; -1.016,-0.149 -0.925,-0.149 ; -1.016,0.151 -0.925,0.151 ; -1.016,0.501 -1.016,0.801 ; -1.016,0.501 -1.188,0.501 -1.188,0.801 -1.016,0.801 ; -1.016,0.501 -0.925,0.501 ; -1.016,0.801 -0.925,0.801 ; -0.925,-0.799 -0.925,-0.499 ; -0.925,-0.799 -0.913,-0.799 ; -0.925,-0.499 -0.913,-0.499 ; -0.925,-0.149 -0.925,0.151 ; -0.925,-0.149 -0.913,-0.149 ; -0.925,0.151 -0.913,0.151 ; -0.925,0.501 -0.925,0.801 ; -0.925,0.501 -0.913,0.501 ; -0.925,0.801 -0.913,0.801 ; -0.913,-0.799 -0.913,-0.499 ; -0.913,-0.799 -0.663,-0.799 ; -0.913,-0.499 -0.663,-0.499 ; -0.913,-0.149 -0.913,0.151 ; -0.913,-0.149 -0.663,-0.149 ; -0.913,0.151 -0.663,0.151 ; -0.913,0.501 -0.913,0.801 ; -0.913,0.501 -0.663,0.501 ; -0.913,0.801 -0.663,0.801 ; -0.663,-1.099 0.687,-1.099 ; -0.663,-1.099 -0.663,-0.799 ; -0.663,-1.099 -0.607,-1.042 ; -0.663,-0.799 -0.663,-0.499 ; -0.663,-0.799 -0.642,-0.799 -0.642,-0.499 -0.663,-0.499 ; -0.663,-0.499 -0.663,-0.149 ; -0.663,-0.149 -0.663,0.151 ; -0.663,-0.149 -0.642,-0.149 -0.642,0.151 -0.663,0.151 ; -0.663,0.151 -0.663,0.501 ; -0.663,0.501 -0.663,0.801 ; -0.663,0.501 -0.642,0.501 -0.642,0.801 -0.663,0.801 ; -0.663,0.801 -0.663,1.101 ; -0.663,1.101 0.687,1.101 ; -0.663,1.101 -0.607,1.045 ; -0.607,-1.042 0.631,-1.042 ; -0.607,-1.042 -0.607,1.045 ; -0.607,1.045 0.631,1.045 ; 0.631,-1.042 0.687,-1.099 ; 0.631,-1.042 0.631,1.045 ; 0.631,1.045 0.687,1.101 ; 0.687,-1.099 0.687,-0.799 ; 0.687,-0.799 0.687,-0.499 ; 0.687,-0.799 0.666,-0.799 0.666,-0.499 0.687,-0.499 ; 0.687,-0.799 0.937,-0.799 ; 0.687,-0.499 0.937,-0.499 ; 0.687,-0.499 0.687,-0.149 ; 0.687,-0.149 0.687,0.151 ; 0.687,-0.149 0.666,-0.149 0.666,0.151 0.687,0.151 ; 0.687,-0.149 0.937,-0.149 ; 0.687,0.151 0.937,0.151 ; 0.687,0.151 0.687,0.501 ; 0.687,0.501 0.687,0.801 ; 0.687,0.501 0.666,0.501 0.666,0.801 0.687,0.801 ; 0.687,0.501 0.937,0.501 ; 0.687,0.801 0.937,0.801 ; 0.687,0.801 0.687,1.101 ; 0.937,-0.799 0.937,-0.499 ; 0.937,-0.799 0.949,-0.799 ; 0.937,-0.499 0.949,-0.499 ; 0.937,-0.149 0.937,0.151 ; 0.937,-0.149 0.949,-0.149 ; 0.937,0.151 0.949,0.151 ; 0.937,0.501 0.937,0.801 ; 0.937,0.501 0.949,0.501 ; 0.937,0.801 0.949,0.801 ; 0.949,-0.799 0.949,-0.499 ; 0.949,-0.799 1.04,-0.799 ; 0.949,-0.499 1.04,-0.499 ; 0.949,-0.149 0.949,0.151 ; 0.949,-0.149 1.04,-0.149 ; 0.949,0.151 1.04,0.151 ; 0.949,0.501 0.949,0.801 ; 0.949,0.501 1.04,0.501 ; 0.949,0.801 1.04,0.801 ; 1.04,-0.799 1.04,-0.499 ; 1.04,-0.799 1.212,-0.799 1.212,-0.499 1.04,-0.499 ; 1.04,-0.149 1.04,0.151 ; 1.04,-0.149 1.212,-0.149 1.212,0.151 1.04,0.151 ; 1.04,0.501 1.04,0.801 ; 1.04,0.501 1.212,0.501 1.212,0.801 1.04,0.801 ; -0.7,-1.15 -0.7,1.05 0.7,1.05 0.7,-1.15 -0.7,-1.15
Top Component Outline:
  lines w0.15: -0.5,0 0.5,0 ; 0,-0.5 0,0.5 ; -2,-1.5 -2,1.5 2,1.5 2,-1.5 -2,-1.5
3D body "TSOP65P260X110-6N.step": height 1.1, standoff 0, extent -1.3,-1.1 1.3,1.1